# Altium schematic symbol library Graphic.SchLib: 30 symbols
Pins are listed as number, name and electrical type; pins without a type are passive.

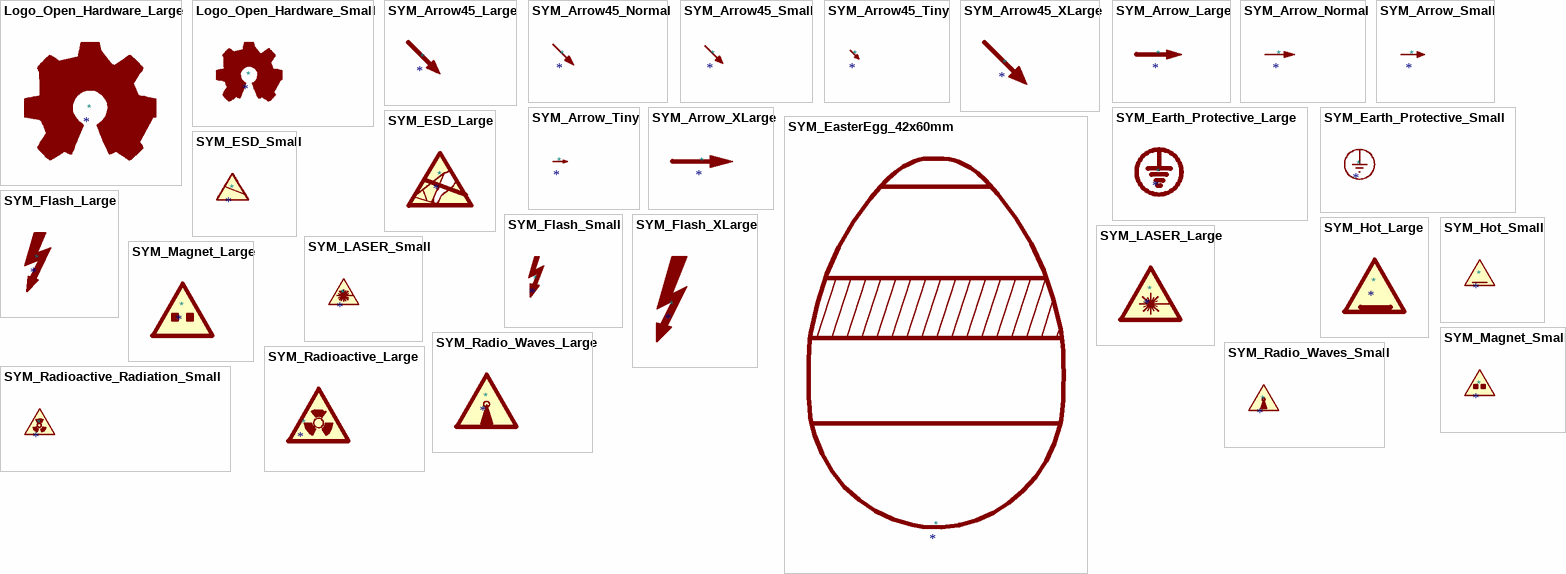
[diagram p0: symbols Logo_Open_Hardware_Large to SYM_Radioactive_Radiation_Small]

## Logo_Open_Hardware_Large
designator *
Value: Logo_Open_Hardware_Large; Reference: #SYM; Sim.Enable: 0; ki_keywords: Logo; ki_description: Open Hardware logo, large; Datasheet: ~

## Logo_Open_Hardware_Small
designator *
Value: Logo_Open_Hardware_Small; Reference: #SYM; Sim.Enable: 0; ki_keywords: Logo; ki_description: Open Hardware logo, small; Datasheet: ~

## SYM_Arrow45_Large
designator *
Value: SYM_Arrow45_Large; Reference: #SYM; Sim.Enable: 0; ki_keywords: symbol arrow angled 45°; ki_description: Filled 45° arrow, 300mil; Datasheet: ~

## SYM_Arrow45_Normal
designator *
Value: SYM_Arrow45_Normal; Reference: #SYM; Sim.Enable: 0; ki_keywords: symbol arrow angled 45°; ki_description: Filled 45° arrow, 200mil; Datasheet: ~

## SYM_Arrow45_Small
designator *
Value: SYM_Arrow45_Small; Reference: #SYM; Sim.Enable: 0; ki_keywords: symbol arrow angled 45°; ki_description: Filled 45° arrow, 160mil; Datasheet: ~

## SYM_Arrow45_Tiny
designator *
Value: SYM_Arrow45_Tiny; Reference: #SYM; Sim.Enable: 0; ki_keywords: symbol arrow angled 45°; ki_description: Filled 45° arrow, 100mil; Datasheet: ~

## SYM_Arrow45_XLarge
designator *
Value: SYM_Arrow45_XLarge; Reference: #SYM; Sim.Enable: 0; ki_keywords: symbol arrow 45° angled; ki_description: Filled 45° arrow, 400mil; Datasheet: ~

## SYM_Arrow_Large
designator *
Value: SYM_Arrow_Large; Reference: #SYM; Sim.Enable: 0; ki_keywords: symbol arrow; ki_description: Filled arrow, 300mil; Datasheet: ~

## SYM_Arrow_Normal
designator *
Value: SYM_Arrow_Normal; Reference: #SYM; Sim.Enable: 0; ki_keywords: symbol arrow; ki_description: Filled arrow, 200mil; Datasheet: ~

## SYM_Arrow_Small
designator *
Value: SYM_Arrow_Small; Reference: #SYM; Sim.Enable: 0; ki_keywords: symbol arrow; ki_description: Filled arrow, 160mil; Datasheet: ~

## SYM_Arrow_Tiny
designator *
Value: SYM_Arrow_Tiny; Reference: #SYM; Sim.Enable: 0; ki_keywords: symbol arrow; ki_description: Filled arrow, 100mil; Datasheet: ~

## SYM_Arrow_XLarge
designator *
Value: SYM_Arrow_XLarge; Reference: #SYM; Sim.Enable: 0; ki_keywords: symbol arrow; ki_description: Filled arrow, 400mil; Datasheet: ~

## SYM_Earth_Protective_Large
designator *
Value: SYM_Earth_Protective_Large; Reference: #SYM; Sim.Enable: 0; ki_keywords: graphical symbol earth protective; ki_description: Protective earth symbol, large; Datasheet: ~

## SYM_Earth_Protective_Small
designator *
Value: SYM_Earth_Protective_Small; Reference: #SYM; Sim.Enable: 0; ki_keywords: graphical symbol earth protective; ki_description: Protective earth symbol, small; Datasheet: ~

## SYM_EasterEgg_42x60mm
designator *
Value: SYM_EasterEgg_42x60mm; Reference: SYM; Sim.Enable: 0; ki_keywords: egg easter oval; ki_description: EasterEgg, ClassA, Medium Size; ki_fp_filters: EasterEgg*; Footprint: Symbol:EasterEgg_EWG1308-2013_ClassA; Datasheet: https://eur-lex.europa.eu/LexUriServ/LexUriServ.do?uri=OJ:L:2013:347:0671:0854:de:PDF

## SYM_ESD_Large
designator *
Value: SYM_ESD_Large; Reference: #SYM; Sim.Enable: 0; ki_keywords: symbol ESD; ki_description: ESD warning/"Do not touch" symbol, large; Datasheet: ~

## SYM_ESD_Small
designator *
Value: SYM_ESD_Small; Reference: #SYM; Sim.Enable: 0; ki_keywords: symbol ESD; ki_description: ESD warning/"Do not touch" symbol, small; Datasheet: ~

## SYM_Flash_Large
designator *
Value: SYM_Flash_Large; Reference: #SYM; Sim.Enable: 0; ki_keywords: graphic symbol flash VAC 220VAC 110VAC power; ki_description: Flash symbol, large; Datasheet: ~

## SYM_Flash_Small
designator *
Value: SYM_Flash_Small; Reference: #SYM; Sim.Enable: 0; ki_keywords: graphic symbol flash VAC 220VAC 110VAC power; ki_description: Flash symbol, small; Datasheet: ~

## SYM_Flash_XLarge
designator *
Value: SYM_Flash_XLarge; Reference: #SYM; Sim.Enable: 0; ki_keywords: graphic symbol flash VAC 220VAC 110VAC power; ki_description: Flash symbol, extra large; Datasheet: ~

## SYM_Hot_Large
designator *
Value: SYM_Hot_Large; Reference: #SYM; Sim.Enable: 0; ki_keywords: symbol logo hot surface warning heat; ki_description: Hot surface warning symbol, large; Datasheet: ~

## SYM_Hot_Small
designator *
Value: SYM_Hot_Small; Reference: #SYM; Sim.Enable: 0; ki_keywords: symbol logo hot surface warning heat; ki_description: Hot surface warning symbol, small; Datasheet: ~

## SYM_LASER_Large
designator *
Value: SYM_LASER_Large; Reference: #SYM; Sim.Enable: 0; ki_keywords: symbol logo laser warning; ki_description: Laser radiation warning symbol, large; Datasheet: ~

## SYM_LASER_Small
designator *
Value: SYM_LASER_Small; Reference: #SYM; Sim.Enable: 0; ki_keywords: symbol logo laser warning; ki_description: Laser radiation warning symbol, small; Datasheet: ~

## SYM_Magnet_Large
designator *
Value: SYM_Magnet_Large; Reference: #SYM; Sim.Enable: 0; ki_keywords: symbol logo magnetic field warning; ki_description: Magnetic field warning symbol, large; Datasheet: ~

## SYM_Magnet_Small
designator *
Value: SYM_Magnet_Small; Reference: #SYM; Sim.Enable: 0; ki_keywords: symbol logo magnetic field warning; ki_description: Magnetic field warning symbol, small; Datasheet: ~

## SYM_Radio_Waves_Large
designator *
Value: SYM_Radio_Waves_Large; Reference: #SYM; Sim.Enable: 0; ki_keywords: symbol logo radio waves warning radiation; ki_description: Radio waves warning symbol, large; Datasheet: ~

## SYM_Radio_Waves_Small
designator *
Value: SYM_Radio_Waves_Small; Reference: #SYM; Sim.Enable: 0; ki_keywords: symbol logo radio waves warning radiation; ki_description: Radio waves warning symbol, small; Datasheet: ~

## SYM_Radioactive_Large
designator *
Value: SYM_Radioactive_Large; Reference: #SYM; Sim.Enable: 0; ki_keywords: symbol logo radioactive radiation warning heat; ki_description: Radioactive/radiation warning symbol, large; Datasheet: ~

## SYM_Radioactive_Radiation_Small
designator *
Value: SYM_Radioactive_Radiation_Small; Reference: #SYM; Sim.Enable: 0; ki_keywords: symbol logo radioactive radiation warning; ki_description: Radioactive/radiation warning symbol, small; Datasheet: ~